# Altium footprint library Otto pcb 2.PcbLib: 50 footprints (part 3 of 4)
Each footprint in its own frame and in the unit in brackets; x right, y up, seen from the top. Pads: shape width x height; smd on the part's side, far side on the other; paste and mask are expansions set on the pad; w line width, h text height; cw(c..) or ccw(c..) is an arc to the next point about the centre after c.
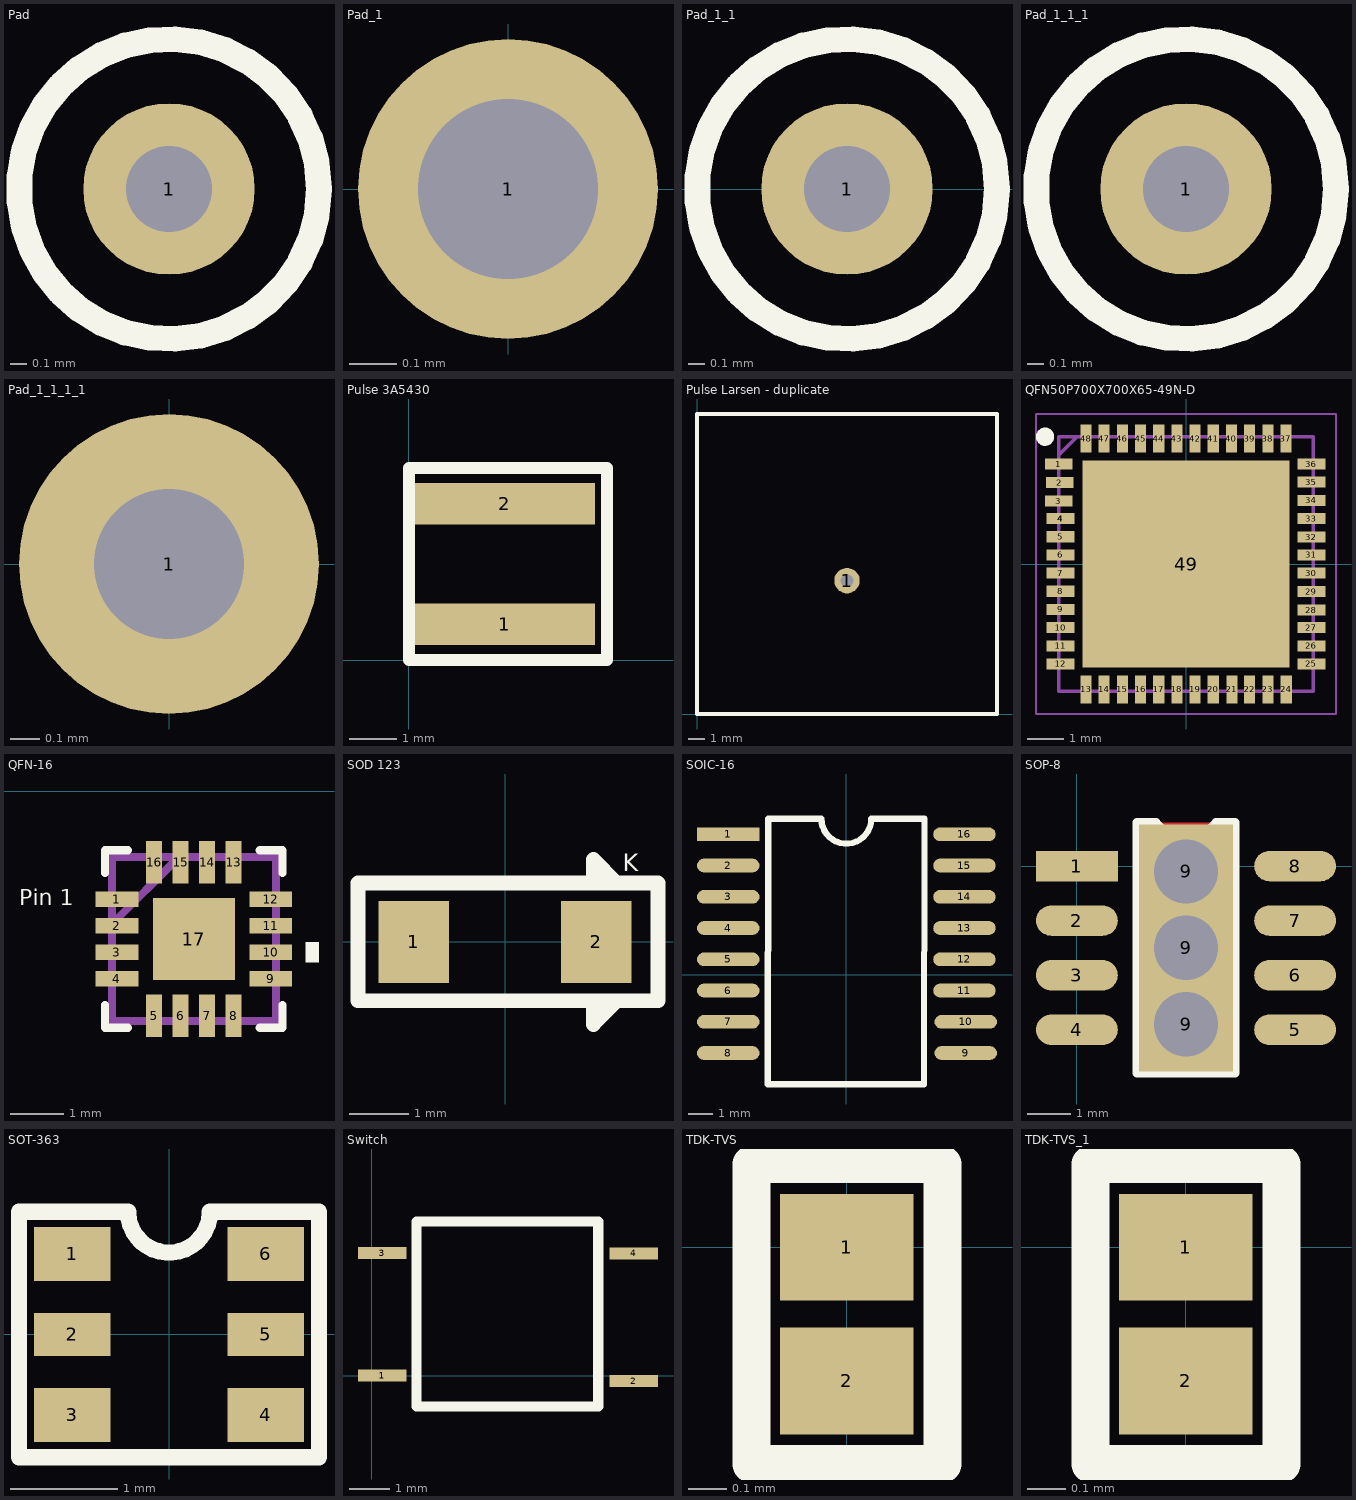
[diagram p2: the footprints below, top view; thin cyan lines are the x and y axes]

## Pad [mil]
height 74.8
pads (1):
  round 40 hole 20: 1(-166,73)
Top Overlay:
  circle w6: c-166,73 r35

## Pad_1 [mil]
height 74.8
pads (1):
  round 25 hole 15: 1(0,0)

## Pad_1_1 [mil]
pads (1):
  round 40 hole 20: 1(-88,0)
Top Overlay:
  circle w6: c-88,0 r35

## Pad_1_1_1 [mil]
pads (1):
  round 40 hole 20: 1(-166,73)
Top Overlay:
  circle w6: c-166,73 r35

## Pad_1_1_1_1 [mil]
height 74.8
pads (1):
  round 40 hole 20: 1(0,0)

## Pulse 3A5430 [mm]
height 1.9
pads (2):
  rect 3.8x0.88 smd: 1(2.032,0.762) 2(2.032,3.302)
Top Overlay:
  lines w0.254: 0,0 4.191,0 4.191,4.064 0,4.064 0,0

## Pulse Larsen - duplicate [mil]
pads (1):
  round 60 hole 30: 1(354.33,314.96)
Top Overlay:
  lines w10: 0,0 708.66,0 708.66,708.66 0,708.66 0,0

## QFN50P700X700X65-49N-D [mm] "ST Micro MCU"
height 1.9
pads (59):
  rect 0.762x0.305 smd: 1(-3.501,2.747) 2(-3.475,2.239) 3(-3.501,1.731) 4(-3.45,1.25) 5(-3.45,0.75) 6(-3.45,0.25) 7(-3.45,-0.25) 8(-3.45,-0.75) 9(-3.45,-1.25) 10(-3.45,-1.75) 11(-3.45,-2.25) 12(-3.45,-2.75) 25(3.45,-2.75) 26(3.45,-2.25) 27(3.45,-1.75) 28(3.45,-1.267) 29(3.45,-0.759) 30(3.45,-0.251) 31(3.45,0.25) 32(3.45,0.739) 33(3.45,1.25) 34(3.45,1.75) 35(3.45,2.25) 36(3.45,2.75)
  round 0 smd: 1(-3.45,2.75) 2(-3.45,2.25) 3(-3.45,1.75) 21(1.25,-3.45) 24(2.75,-3.45) 28(3.45,-1.25) 29(3.45,-0.75) 30(3.45,-0.25) 32(3.45,0.75)
  round 0.3 smd: 4(-3.45,1.25)
  rect 0.305x0.762 smd: 13(-2.75,-3.45) 14(-2.25,-3.45) 15(-1.75,-3.45) 16(-1.25,-3.45) 17(-0.75,-3.45) 18(-0.25,-3.45) 19(0.25,-3.45) 20(0.75,-3.45) 21(1.259,-3.45) 22(1.75,-3.45) 23(2.25,-3.45) 24(2.758,-3.45) 37(2.75,3.45) 38(2.25,3.45) 39(1.75,3.45) 40(1.25,3.45) 41(0.75,3.45) 42(0.25,3.45) 43(-0.25,3.45) 44(-0.75,3.45) 45(-1.25,3.45) 46(-1.75,3.45) 47(-2.25,3.45) 48(-2.75,3.45)
  rect 5.7x5.7 smd: 49(0,0)
Top Overlay:
  circle w0.25: c-3.875,3.5 r0.125
Mechanical 15:
  lines w0.1: -3.5,3 -3,3.5 ; -3.5,-3.5 3.5,-3.5 3.5,3.5 -3.5,3.5 -3.5,-3.5
Mechanical 16:
  lines w0.05: -4.125,-4.125 4.125,-4.125 4.125,4.125 -4.125,4.125 -4.125,-4.125

## QFN-16 [mm]
height 1.9
pads (17):
  rect 0.805x0.3 smd: 1(-9.199,-2.044) 2(-9.199,-2.544) 3(-9.199,-3.044) 4(-9.199,-3.544) 9(-6.295,-3.544) 10(-6.295,-3.044) 11(-6.295,-2.544) 12(-6.295,-2.044)
  rect 0.3x0.805 smd: 5(-8.497,-4.246) 6(-7.997,-4.246) 7(-7.497,-4.246) 8(-6.997,-4.246) 13(-6.997,-1.342) 14(-7.497,-1.342) 15(-7.997,-1.342) 16(-8.497,-1.342)
  rect 1.55x1.55 smd: 17(-7.747,-2.794)
Top Overlay:
  region: -5.384,-3.234 -5.638,-3.234 -5.638,-2.853 -5.384,-2.853
  lines w0.152: -9.423,-4.039 -9.423,-4.47 -8.992,-4.47 ; -9.423,-1.549 -9.423,-1.118 -8.992,-1.118 ; -6.502,-4.47 -6.071,-4.47 -6.071,-4.039 ; -6.502,-1.118 -6.071,-1.118 -6.071,-1.549
  text "Pin 1" at -11.049,-2.159 h0.3
Mechanical 13:
  lines w0.152: -9.296,-3.683 -9.296,-3.404 ; -9.296,-3.2 -9.296,-2.896 ; -9.296,-2.692 -9.296,-2.388 ; -9.296,-2.515 -8.026,-1.245 ; -9.296,-2.184 -9.296,-1.905 ; -8.636,-4.343 -8.357,-4.343 ; -8.636,-1.245 -8.357,-1.245 ; -8.153,-4.343 -7.849,-4.343 ; -8.153,-1.245 -7.849,-1.245 ; -7.645,-4.343 -7.341,-4.343 ; -7.645,-1.245 -7.341,-1.245 ; -7.137,-4.343 -6.858,-4.343 ; -7.137,-1.245 -6.858,-1.245 ; -6.198,-3.683 -6.198,-3.404 ; -6.198,-3.2 -6.198,-2.896 ; -6.198,-2.692 -6.198,-2.388 ; -6.198,-2.184 -6.198,-1.905 ; -9.296,-4.343 -6.198,-4.343 -6.198,-1.245 -9.296,-1.245 -9.296,-4.343

## SOD 123 [mm] "On Semi 2A Low VF"
height 1.9
pads (2):
  rect 1.2x1.4 smd: 1(-1.55,0) 2(1.55,0)
Top Overlay:
  lines w0.254: 1.5,-1 1.5,-1.4 1.9,-1 2.1,-1 ; 1.5,1 1.5,1.4 1.9,1 2.6,1 ; 2.6,1 -2.5,1 -2.5,-1 2.6,-1 2.6,1
  text "K" at 2,1.2 h0.3

## SOIC-16 [mil]
height 74.8
pads (16):
  rect 100x22 smd: 1(-188.98,225)
  oval 100x22 smd: 2(-188.98,175) 3(-188.98,125) 4(-188.98,75) 5(-188.98,25) 6(-188.98,-25) 7(-188.98,-75) 8(-188.98,-125) 9(191.02,-125) 10(191.02,-75) 11(188.98,-25) 12(188.98,25) 13(188.98,75) 14(188.98,125) 15(188.98,175) 16(188.98,225)
Top Overlay:
  lines w10: -125.85,-175 124.15,-175 125,250 40,250 cw(c0,250) -40,250 -125,250 -125.85,-175

## SOP-8 [mil]
pads (11):
  rect 75x28 smd: 1(0,0)
  oval 75x28 smd: 2(0,-50) 3(0,-100) 4(0,-150) 5(200,-150) 6(200,-100) 7(200,-50) 8(200,0)
  rect 86.61x86.61 hole 59.06: 9(100,-145) 9(100,-75) 9(100,-5)
Top Layer:
  rectangle: 55,-190 145,40
Top Overlay:
  lines w7.87: 55,-190 55,40 72.5,40 87.5,25 ccw(c100,38.12) 112.5,25 127.5,40 145,40 145,-190 55,-190
Top Paste:
  rectangle: 55,-190 145,40

## SOT-363 [mm]
height 1.9
pads (6):
  rect 0.711x0.5 smd: 1(-0.9,0.75) 3(-0.9,-0.75) 4(0.9,-0.75) 6(0.9,0.75)
  rect 0.711x0.4 smd: 2(-0.9,0) 5(0.9,0)
Top Overlay:
  lines w0.152: -1.397,-1.143 1.397,-1.143 1.397,1.143 0.381,1.143 cw(c0,1.143) -0.381,1.143 -1.397,1.143 -1.397,-1.143

## Switch [mm]
pads (4):
  rect 1.2x0.3 smd: 1(0.254,0) 2(6.477,-0.135) 3(0.254,3.032) 4(6.477,3.024)
Top Overlay:
  lines w0.254: 1.1,-0.762 5.6,-0.762 5.6,3.81 1.1,3.81 1.1,-0.762

## TDK-TVS [mm]
height 1.9
pads (2):
  rect 0.35x0.28 smd: 1(0,0) 2(0,-0.35)
Top Overlay:
  lines w0.1: -0.249,-0.568 0.251,-0.568 0.251,0.218 -0.249,0.218 -0.249,-0.568

## TDK-TVS_1 [mm]
height 1.9
pads (2):
  rect 0.35x0.28 all layers, no hole: 1(0,0) 2(0,-0.35)
Top Overlay:
  lines w0.1: -0.249,-0.568 0.251,-0.568 0.251,0.218 -0.249,0.218 -0.249,-0.568